# Altium schematic symbol library 1N4004.SchLib: 1 symbol
Pins are listed as number, name and electrical type; pins without a type are passive.

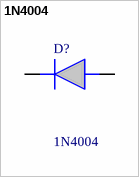
[diagram p0: symbol 1N4004]

## 1N4004
designator D?
Rectifiers Diode, DO-41, 400V, 1A; Manufacturer_Name: Diotec; Mouser Part Number: 637-1N4004; Mouser Price/Stock: https://www.mouser.co.uk/ProductDetail/Diotec-Semiconductor/1N4004?qs=OlC7AqGiEDk3eaZusDVIWQ%3D%3D; Manufacturer_Part_Number: 1N4004; Datasheet Link: https://www.diodes.com/assets/Datasheets/ds28002.pdf
footprint DIOAD1408W86L464D236
pins: 1 K, 2 A